# EAGLE library part MIC4680 (library Elecrow_IC)
1A 200kHz Super Switcher Buck Regulator http://www.micrel.com/_PDF/mic4680.pdf
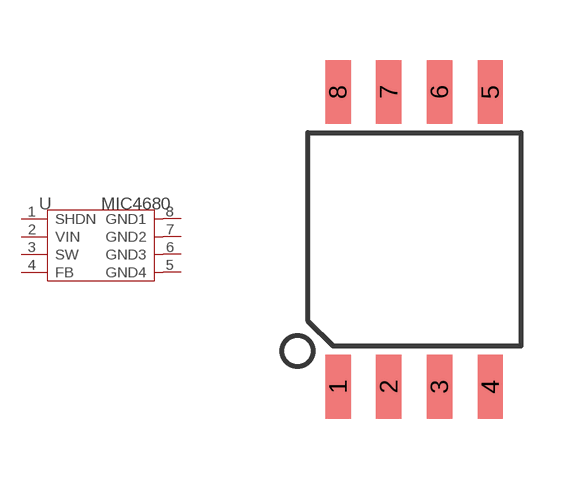
[diagram p15: symbol with the pads of SOIC8; footprint SOIC8]

Designator prefix U

## MIC4680-SOIC8  [SOIC8]
1  SHDN  in
2  VIN  sup
3  SW  out
4  FB  in
5  GND4  sup
6  GND3  sup
7  GND2  sup
8  GND1  sup

## Footprint SOIC8 (pad centres in mm)
smd 0.635 x 1.6: 1 -1.905,-3.683; 2 -0.635,-3.683; 3 0.635,-3.683; 4 1.905,-3.683; 5 1.905,3.683; 6 0.635,3.683; 7 -0.635,3.683; 8 -1.905,3.683